# EAGLE library part MAX1797 (library MyParts)
DC/DC CONVERTER
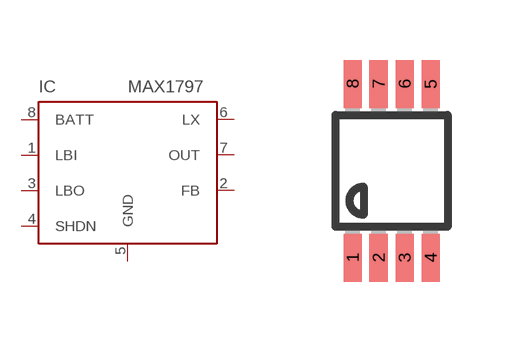
[diagram p6: symbol with the pads of UMAX8; footprint UMAX8]

Designator prefix IC

## MAX1797 (MF: MAXIM; MPN: MAX1674EUA+; OC_FARNELL: 1379864; OC_NEWARK: 23K5719)  [UMAX8]
1  LBI  in
2  FB  out
3  LBO  out
4  SHDN  in
5  GND  pwr
6  LX  pas
7  OUT  out
8  BATT  in

## Footprint UMAX8 (pad centres in mm)
micro MAX Package
smd 0.45 x 1.2: 1 -0.975,-2.175; 2 -0.325,-2.175; 3 0.325,-2.175; 4 0.975,-2.175; 5 0.975,2.175; 6 0.325,2.175; 7 -0.325,2.175; 8 -0.975,2.175